# Altium schematic symbol library STM32_Nucleo.SchLib: 1 symbol
Pins are listed as number, name and electrical type; pins without a type are passive.

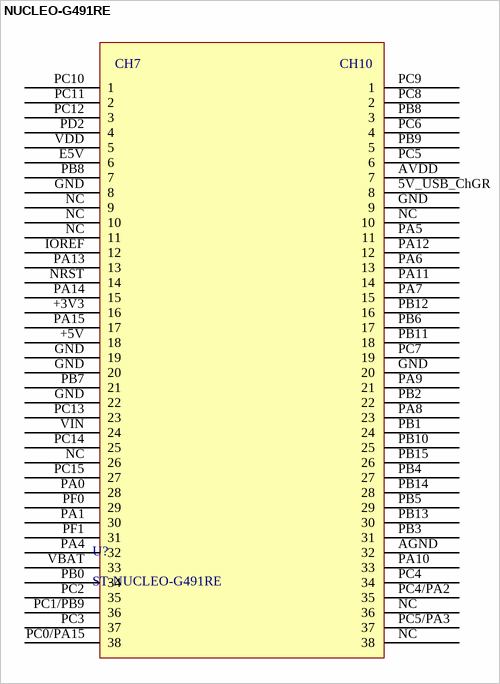
[diagram p0: symbol NUCLEO-G491RE]

## NUCLEO-G491RE
designator U?, comment ST-NUCLEO-G491RE
STM32 Nucleo-64 development board with STM32G491RE MCU
footprint NUCLEO-G491RE
pins: 5V_USB_ChGR 8, +3V3 16, +5V 18, AGND 32, AVDD 7, E5V 6, GND 19, GND 20, GND 22, GND 8, GND 20, GND 9, IOREF 12, NC 26, NC 9, NC 10, NC 11, NC 36, NC 38, NC 10, NRST 14, PA0 28, PA1 30, PA4 32, PA5 11, PA6 13, PA7 15, PA8 23, PA9 21, PA10 33, PA11 14, PA12 12, PA13 13, PA14 15, PA15 17, PB0 34, PB1 24, PB2 22, PB3 31, PB4 27, PB5 29, PB6 17, PB7 21, PB8 7, PB8 3, PB9 5, PB10 25, PB11 18, PB12 16, PB13 30, PB14 28, PB15 26, PC0/PA15 38, PC1/PB9 36, PC2 35, PC3 37, PC4 34, PC4/PA2 35, PC5 6, PC5/PA3 37, PC6 4, PC7 19, PC8 2, PC9 1, PC10 1, PC11 2, PC12 3, PC13 23, PC14 25, PC15 27, PD2 4, PF0 29, PF1 31, VBAT 33, VDD 5, VIN 24
text: CH7; CH10